# Altium footprint library PcbLib1.PcbLib: 22 footprints (part 2 of 2)
Each footprint in its own frame and in the unit in brackets; x right, y up, seen from the top. Pads: shape width x height; smd on the part's side, far side on the other; paste and mask are expansions set on the pad; w line width, h text height; cw(c..) or ccw(c..) is an arc to the next point about the centre after c.
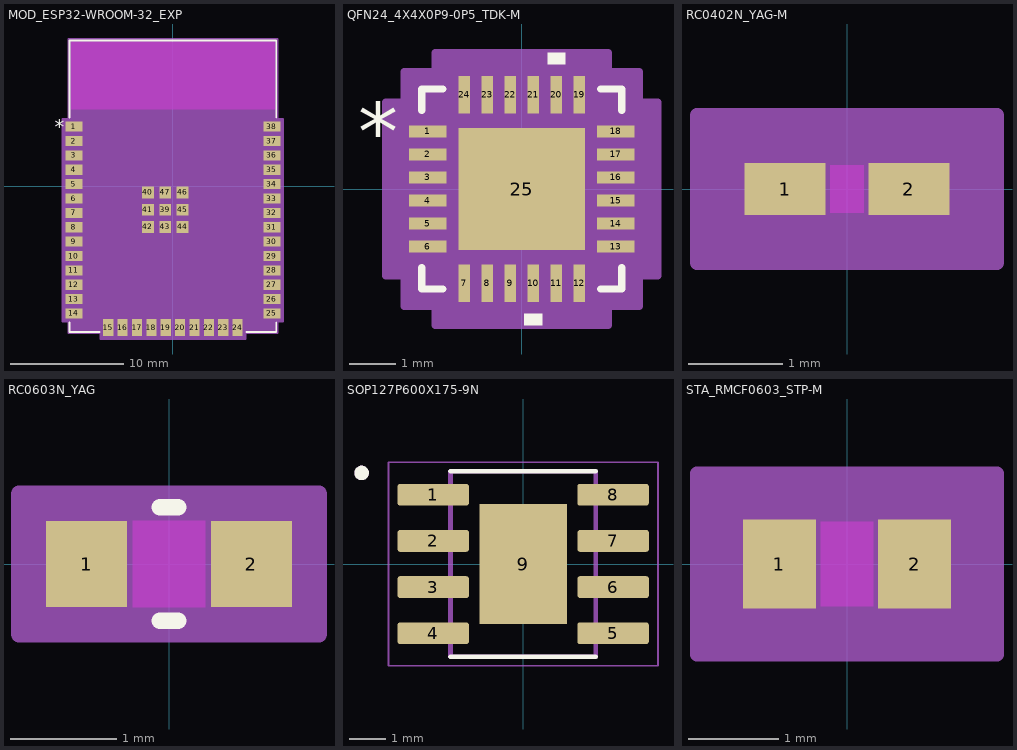
[diagram p1: the footprints below, top view; thin cyan lines are the x and y axes]

## MOD_ESP32-WROOM-32_EXP [mil]
pads (47):
  rect 59x35 smd paste+0 mask+0: 1(-344.49,207.09) 2(-344.49,157.09) 3(-344.49,107.09) 4(-344.49,57.09) 5(-344.49,7.09) 6(-344.49,-42.91) 7(-344.49,-92.91) 8(-344.49,-142.91) 9(-344.49,-192.91) 10(-344.49,-242.91) 11(-344.49,-292.91) 12(-344.49,-342.91) 13(-344.49,-392.91) 14(-344.49,-442.91) 25(344.49,-442.91) 26(344.49,-392.91) 27(344.49,-342.91) 28(344.49,-292.91) 29(344.49,-242.91) 30(344.49,-192.91) 31(344.49,-142.91) 32(344.49,-92.91) 33(344.49,-42.91) 34(344.49,7.09) 35(344.49,57.09) 36(344.49,107.09) 37(344.49,157.09) 38(344.49,207.09)
  rect 35x59 smd paste+0 mask+0: 15(-225,-492.13) 16(-175,-492.13) 17(-125,-492.13) 18(-75,-492.13) 19(-25,-492.13) 20(25,-492.13) 21(75,-492.13) 22(125,-492.13) 23(175,-492.13) 24(225,-492.13)
  rect 41x41 smd paste+0 mask+0: 39(-26.77,-81.89) 40(-86.81,-21.85) 41(-86.81,-81.89) 42(-86.81,-141.93) 43(-26.77,-141.93) 44(33.27,-141.93) 45(33.27,-81.89) 46(33.27,-21.85) 47(-26.77,-21.85)
Top Overlay:
  lines w6: -359.5,-473.51 -359.5,-507 -255.6,-507 ; -359.5,237.69 -359.5,507 359.5,507 359.5,237.69 ; 255.6,-507 359.5,-507 359.5,-473.51
  text "*" at -411.49,182.09 h50
Keep-Out Layer:
  region: 354.5,502 -354.5,502 -354.5,268 354.5,268
Mechanical 13:
  lines w1: -354.5,-502 -354.5,502 354.5,502 354.5,-502 -354.5,-502
  text "*" at -302.49,182.09 h50
Mechanical 15:
  region: 383.99,234.59 364.5,234.59 364.5,512 -364.5,512 -364.5,234.59 -383.99,234.59 -383.99,-470.41 -364.5,-470.41 -364.5,-512 -252.5,-512 -252.5,-531.63 252.5,-531.63 252.5,-512 364.5,-512 364.5,-470.41 383.99,-470.41
  lines w6: -383.99,-470.41 -364.5,-470.41 -364.5,-512 -252.5,-512 -252.5,-531.63 252.5,-531.63 252.5,-512 364.5,-512 364.5,-470.41 383.99,-470.41 383.99,234.59 364.5,234.59 364.5,512 -364.5,512 -364.5,234.59 -383.99,234.59 -383.99,-470.41
3D body "User Library-ESP32-WROOM-32E-1.step": height 124.02, standoff -0.71, extent -355.95,-502.05 354.13,502.6

## QFN24_4X4X0P9-0P5_TDK-M [mil]
pads (25):
  rect 32x10 smd paste+0 mask+0: 1(-80.5,49.23) 2(-80.5,29.54) 3(-80.5,9.85) 4(-80.5,-9.85) 5(-80.5,-29.54) 6(-80.5,-49.23) 13(80.5,-49.23) 14(80.5,-29.54) 15(80.5,-9.85) 16(80.5,9.85) 17(80.5,29.54) 18(80.5,49.23)
  rect 10x32 smd paste+0 mask+0: 7(-49.23,-80.5) 8(-29.54,-80.5) 9(-9.85,-80.5) 10(9.85,-80.5) 11(29.54,-80.5) 12(49.23,-80.5) 19(49.23,80.5) 20(29.54,80.5) 21(9.85,80.5) 22(-9.85,80.5) 23(-29.54,80.5) 24(-49.23,80.5)
  rect 108x104 smd paste+0 mask+0: 25(0,0)
Top Overlay:
  region: 37.03,106.5 22.04,106.5 22.04,116.5 37.03,116.5
  region: 17.34,-106.5 2.35,-106.5 2.35,-116.5 17.34,-116.5
  lines w6: -85.5,-67.33 -85.5,-85.5 -67.33,-85.5 ; -85.5,67.33 -85.5,85.5 -67.33,85.5 ; 67.33,-85.5 85.5,-85.5 85.5,-67.33 ; 67.33,85.5 85.5,85.5 85.5,67.33
  text "*" at -140,24.23 h50
Mechanical 13:
  lines w1: -80.5,30.5 -30.5,80.5 ; -80.5,-80.5 -80.5,80.5 80.5,80.5 80.5,-80.5 -80.5,-80.5 ; -80.5,-55.23 -80.5,-43.23 -80.5,-55.23 ; -80.5,-35.53 -80.5,-23.54 -80.5,-35.53 ; -80.5,-15.85 -80.5,-3.85 -80.5,-15.85 ; -80.5,3.85 -80.5,15.85 -80.5,3.85 ; -80.5,23.54 -80.5,35.53 -80.5,23.54 ; -80.5,43.23 -80.5,55.23 -80.5,43.23 ; -55.23,-80.5 -43.23,-80.5 -55.23,-80.5 ; -55.23,80.5 -43.23,80.5 -55.23,80.5 ; -35.53,-80.5 -23.54,-80.5 -35.53,-80.5 ; -35.53,80.5 -23.54,80.5 -35.53,80.5 ; -15.85,-80.5 -3.85,-80.5 -15.85,-80.5 ; -15.85,80.5 -3.85,80.5 -15.85,80.5 ; 3.85,-80.5 15.85,-80.5 3.85,-80.5 ; 3.85,80.5 15.85,80.5 3.85,80.5 ; 23.54,-80.5 35.53,-80.5 23.54,-80.5 ; 23.54,80.5 35.53,80.5 23.54,80.5 ; 43.23,-80.5 55.23,-80.5 43.23,-80.5 ; 43.23,80.5 55.23,80.5 43.23,80.5 ; 80.5,-55.23 80.5,-43.23 80.5,-55.23 ; 80.5,-35.53 80.5,-23.54 80.5,-35.53 ; 80.5,-15.85 80.5,-3.85 80.5,-15.85 ; 80.5,3.85 80.5,15.85 80.5,3.85 ; 80.5,23.54 80.5,35.53 80.5,23.54 ; 80.5,43.23 80.5,55.23 80.5,43.23
  text "*" at -46,24.23 h50
Mechanical 15:
  region: -74.22,-100.5 -100.5,-100.5 -100.5,-74.22 -116.5,-74.22 -116.5,74.22 -100.5,74.22 -100.5,100.5 -74.22,100.5 -74.22,116.5 74.22,116.5 74.22,100.5 100.5,100.5 100.5,74.22 116.5,74.22 116.5,-74.22 100.5,-74.22 100.5,-100.5 74.22,-100.5 74.22,-116.5 -74.22,-116.5
  lines w6: -116.5,-74.22 -116.5,74.22 -100.5,74.22 -100.5,100.5 -74.22,100.5 -74.22,116.5 74.22,116.5 74.22,100.5 100.5,100.5 100.5,74.22 116.5,74.22 116.5,-74.22 100.5,-74.22 100.5,-100.5 74.22,-100.5 74.22,-116.5 -74.22,-116.5 -74.22,-100.5 -100.5,-100.5 -100.5,-74.22 -116.5,-74.22
3D body "QFN24_4X4X0P9-0P5_TDK.step": height 37.09, standoff 0, extent -80.51,-80.51 80.51,80.51

## RC0402N_YAG-M [mil]
pads (2):
  rect 34x22 smd paste+0 mask+0: 1(-26,0) 2(26,0)
Top Layer keep-out:
  region: -7,-8 -7,8 7,8 7,-8
Keep-Out Layer:
  region: -7,-10 -7,10 7,10 7,-10
Mechanical 13:
  lines w1: -21,-10 -21,10 ; -21,-10 21,-10 ; -21,-10 -9,-10 -9,10 -21,10 ; -21,-10 -21,10 ; -21,10 21,10 ; 21,-10 21,10 ; 21,-10 21,10 ; 21,-10 9,-10 9,10 21,10
Mechanical 15:
  region: 63,-31 -63,-31 -63,31 63,31
  lines w6: -63,-31 63,-31 63,31 -63,31 -63,-31
3D body "RC0402N_YAG.step": height 27.99, standoff 0, extent -20.98,-10 20.98,10

## RC0603N_YAG [mil]
pads (2):
  rect 30x32 smd paste+0 mask+0: 1(-30.5,0) 2(30.5,0)
Top Layer keep-out:
  region: -13.5,-14 -13.5,14 13.5,14 13.5,-14
Top Overlay:
  lines w6: -3.39,-21 3.39,-21 ; -3.39,21 3.39,21
Keep-Out Layer:
  region: -13.5,-16 -13.5,16 13.5,16 13.5,-16
Mechanical 13:
  lines w1: -31.5,-16 -31.5,16 ; -31.5,-16 -15.5,-16 -15.5,16 -31.5,16 ; -31.5,-16 31.5,-16 ; -31.5,-16 -31.5,16 ; -31.5,16 31.5,16 ; 31.5,-16 15.5,-16 15.5,16 31.5,16 ; 31.5,-16 31.5,16 ; 31.5,-16 31.5,16
Mechanical 15:
  region: 55.5,-26 -55.5,-26 -55.5,26 55.5,26
  lines w6: -55.5,-26 -55.5,26 55.5,26 55.5,-26 -55.5,-26
3D body "RC0603N_YAG.step": height 27.99, standoff 0, extent -31.5,-15.98 31.5,15.98

## SOP127P600X175-9N [mm]
height 1.75
pads (9):
  rrect25% 1.97x0.6 smd: 1(-2.475,1.905) 2(-2.475,0.635) 3(-2.475,-0.635) 4(-2.475,-1.905) 5(2.475,-1.905) 6(2.475,-0.635) 7(2.475,0.635) 8(2.475,1.905)
  rect 2.413x3.302 smd paste-3: 9(0,0)
Top Overlay:
  circle w0.2: c-4.445,2.505 r0.1
  lines w0.127: -2,-2.55 2,-2.55 ; -2,2.55 2,2.55
Top Paste:
  region: 0.645,-0.82 -0.645,-0.82 -0.645,0.82 0.645,0.82
Mechanical 13:
  circle w0.2: c-4.445,2.505 r0.1
  lines w0.127: -2,-2.55 2,-2.55 2,2.55 -2,2.55 -2,-2.55
Mechanical 15:
  lines w0.05: -3.71,-2.8 3.71,-2.8 3.71,2.8 -3.71,2.8 -3.71,-2.8
3D body "step_temp.STEP": height 1.75, standoff 0, extent -3,-2.45 3,2.45

## STA_RMCF0603_STP-M [mil]
pads (2):
  rect 32x39 smd paste+0 mask+0: 1(-29.5,0) 2(29.5,0)
Top Layer keep-out:
  region: -11.5,-16.5 -11.5,16.5 11.5,16.5 11.5,-16.5
Keep-Out Layer:
  region: -11.5,-18.5 -11.5,18.5 11.5,18.5 11.5,-18.5
Mechanical 13:
  lines w1: -33.5,-18.5 -33.5,18.5 ; -33.5,-18.5 -13.5,-18.5 -13.5,18.5 -33.5,18.5 ; -33.5,-18.5 33.5,-18.5 ; -33.5,-18.5 -33.5,18.5 ; -33.5,18.5 33.5,18.5 ; 33.5,-18.5 13.5,-18.5 13.5,18.5 33.5,18.5 ; 33.5,-18.5 33.5,18.5 ; 33.5,-18.5 33.5,18.5
Mechanical 15:
  region: 65.5,-39.5 -65.5,-39.5 -65.5,39.5 65.5,39.5
  lines w6: -65.5,-39.5 -65.5,39.5 65.5,39.5 65.5,-39.5 -65.5,-39.5
3D body "STA_RMCF0603_STP.step": height 22.01, standoff 0, extent -33.5,-18.5 33.5,18.5